# Altium integrated library Resistor 0805 47K.IntLib: 1 symbol
Pins are listed as number, name and electrical type; pins without a type are passive.

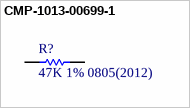
[diagram p0: symbol CMP-1013-00699-1]

## CMP-1013-00699-1
designator R?, comment 47K 1% 0805(2012)
47K 0.125W 1% 0805 (2012 Metric)  SMD; Case-Metric: 2012; Value: 47000.00 Ohm; Case-EIA: 0805; Power: 0.125 W; Tolerance: 1 %; Technology: SMT
footprint RESC0805(2012)_N (Chip Resistor, Body 2.0x1.3mm, IPC Medium Density)
footprint RESC0805(2012)_L (Chip Resistor, Body 2.0x1.3mm, IPC High Density)
footprint RESC0805(2012)_M (Chip Resistor, Body 2.0x1.3mm, IPC Low Density)
pins: 1, 2
1 alternate drawing of the same symbol